# EAGLE library part HCNR200/1 (library hcnr200_201)
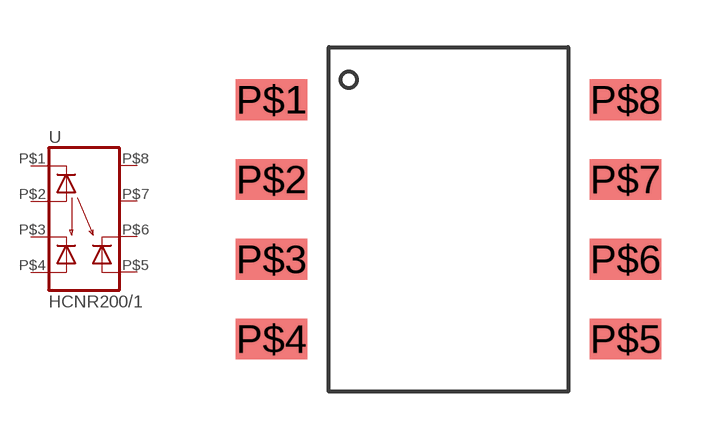
[diagram p0: symbol with the pads of SMT; footprint SMT]

Designator prefix -

## HCNR200/1  [SMT]
P$1  LED_C  pas
P$2  LED_A  pas
P$3  PD1_C  pas
P$4  PD1_A  pas
P$5  PD2_A  pas
P$6  PD2_C  pas
P$7  NC1  nc
P$8  NC2  nc

## Footprint SMT (pad centres in mm)
Small Outline Wide Plastic Gull Wing 300-mil body, package type SO
smd 2.286 x 1.295: P$1 -5.639,2.54; P$2 -5.639,0; P$3 -5.639,-2.54; P$4 -5.639,-5.08; P$5 5.639,-5.08; P$6 5.639,-2.54; P$7 5.639,0; P$8 5.639,2.54